# Altium schematic symbol library Transistor.SchLib: 26 symbols
Pins are listed as number, name and electrical type; pins without a type are passive.

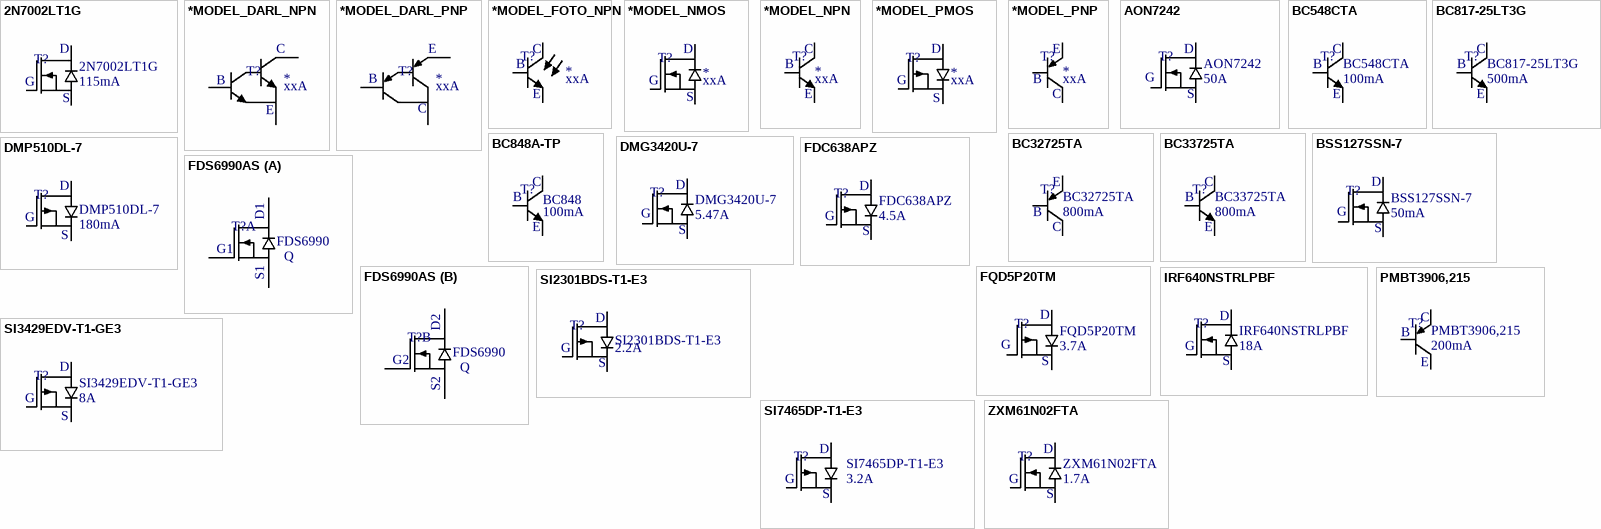
[diagram p0: symbols 2N7002LT1G to ZXM61N02FTA]

## 2N7002LT1G
designator T?  Current: 115mA  (hidden comment: 2N7002LT1G)
MOSFET N-CH 60V 115MA SOT-23; Manufacturer: ON Semiconductor; Mount Type: SMD; Category: NMOSFET; Supplier 1: Farnell; Supplier 2: Newark; Supplier 3: Digi-Key; Supplier 4: Mouser; Supplier Part Number 1: 1764537; Supplier Part Number 2: 62M2216; Supplier Part Number 3: 2N7002LT1GOSCT-ND; Supplier Part Number 4: 863-2N7002LT1G; Value: 2N7002LT1G
footprint SOT-23
pins: 1 G, 2 S, 3 D

## *MODEL_DARL_NPN
designator T?, comment Current: xxA  (hidden comment: Part Number)
Description; Manufacturer: *; Mount Type: *; Category: BJT NPN; Value: *
pins: B, C, E

## *MODEL_DARL_PNP
designator T?, comment Current: xxA  (hidden comment: Part Number)
Description; Manufacturer: *; Mount Type: *; Category: BJT NPN; Value: *
pins: B, C, E

## *MODEL_FOTO_NPN
designator T?, comment Current: xxA  (hidden comment: Part Number)
Description; Manufacturer: *; Mount Type: *; Category: BJT NPN; Value: *
pins: B, C, E

## *MODEL_NMOS
designator T?, comment Current: xxA  (hidden comment: Part Number)
Description; Manufacturer: *; Mount Type: *; Category: NMOSFET; Value: *
pins: 1 G, 2 S, 3 D

## *MODEL_NPN
designator T?, comment Current: xxA  (hidden comment: Part Number)
Description; Manufacturer: *; Mount Type: *; Category: BJT NPN; Value: *
pins: 1 B, 2 E, 3 C

## *MODEL_PMOS
designator T?, comment Current: xxA  (hidden comment: Part Number)
Description; Manufacturer: *; Mount Type: *; Category: PMOSFET; Value: *
pins: 1 G, 2 S, 3 D

## *MODEL_PNP
designator T?, comment Current: xxA  (hidden comment: Part Number)
Description; Manufacturer: *; Mount Type: *; Category: BJT PNP; Value: *
pins: 1 C, 2 B, 3 E

## AON7242
designator T?  Current: 50A  (hidden comment: AON7242)
MOS N CH 40V 50A DFN3.3X3.3EP; Manufacturer: Alpha & Omega Semiconductor Inc; Mount Type: SMD; Category: NMOSFET; Supplier 1: Digi-Key; Supplier Part Number 1: 785-1378-1-ND; Value: AON7242
footprint DFN 3.3x3.3; pin to pad 1>1+2+3
pins: 1 S, 2 S, 3 S, 4 G, 5 D, 6 D, 7 D, 8 D

## BC548CTA
designator T?  Current: 100mA  (hidden comment: BC548CTA)
TRANS NPN 30V 0.1A TO-92; Manufacturer: Fairchild Semiconductor; Mount Type: PTH; Category: BJT NPN; Supplier 1: Mouser; Supplier Part Number 1: 512-BC548BU; Supplier 2: Farnell; Supplier Part Number 2: 2453795; Supplier 3: Digi-Key; Supplier Part Number 3: BC548CTAFSCT-ND; Supplier 4: Newark; Supplier Part Number 4: 31Y0484; Value: BC548CTA
footprint TO-92
pins: 1 C, 2 B, 3 E

## BC817-25LT3G
designator T?  Current: 500mA  (hidden comment: BC817-25LT3G)
TRANSISTOR NPN 45V 500MA SOT-23; Manufacturer: ON Semiconductor; Mount Type: SMD; Category: BJT NPN; Supplier 1: Mouser; Supplier 2: Allied; Supplier 3: Digi-Key; Supplier Part Number 1: 863-BC817-25LT3G; Supplier Part Number 2: R1106974; Supplier Part Number 3: BC817-25LT1GOSCT-ND; Value: BC817-25LT3G
footprint SOT-23; pin to pad B>1 C>3 E>2
pins: B, C, E

## BC848A-TP
designator T?  value BC848  Current: 100mA  (hidden comment: BC848A-TP)
TRANSISTOR NPN 100MA 30V SOT-23; Manufacturer: Micro Commercial Co; Mount Type: SMD; Category: BJT NPN; Supplier 1: Farnell; Supplier 2: Newark; Supplier 3: Mouser; Supplier 4: Digi-Key; Supplier Part Number 1: 1924326; Supplier Part Number 2: 51T4870; Supplier Part Number 3: 833-BC848A-TP; Supplier Part Number 4: BC848A-TPMSCT-ND
footprint SOT-23
pins: 1 B, 2 E, 3 C

## BC32725TA
designator T?  Current: 800mA  (hidden comment: BC32725TA)
TRANS PNP 45V 0.8A TO-92; Manufacturer: Fairchild/ON Semiconductor; Mount Type: PTH; Category: BJT PNP; Supplier 1: Digi-Key; Supplier Part Number 1: BC32725TACT-ND; Supplier 2: Farnell; Supplier Part Number 2: 1853514; Supplier 3: Newark; Supplier Part Number 3: 82C0340; Value: BC32725TA
footprint TO-92
pins: 1 C, 2 B, 3 E

## BC33725TA
designator T?  Current: 800mA  (hidden comment: BC33725TA)
TRANS NPN 45V 0.8A TO-92; Manufacturer: Fairchild/ON Semiconductor; Mount Type: PTH; Category: BJT NPN; Supplier 1: Newark; Supplier Part Number 1: 82C0365; Supplier 2: Digi-Key; Supplier Part Number 2: BC33725TACT-ND; Supplier 3: Farnell; Supplier Part Number 3: 1695754; Value: BC33725TA
footprint TO-92
pins: 1 C, 2 B, 3 E

## BSS127SSN-7
designator T?  Current: 50mA  (hidden comment: BSS127SSN-7)
MOSFET N-CH 600V 50MA SC59; Manufacturer: Diodes Incorporated; Mount Type: SMD; Category: NMOSFET; Supplier 1: Digi-Key; Supplier Part Number 1: BSS127SSN-7DICT-ND; Value: BSS127SSN-7
footprint SOT-23
pins: 1 G, 2 S, 3 D

## DMG3420U-7
designator T?  Current: 5.47A  (hidden comment: DMG3420U-7)
MOSFET N-CH 20V 5.47A SOT23; Manufacturer: Diodes Incorporated; Mount Type: SMD; Category: NMOSFET; Supplier 1: Mouser; Supplier Part Number 1: 621-DMG3420U-7; Supplier 2: Digi-Key; Supplier Part Number 2: DMG3420U-7DICT-ND; Value: DMG3420U-7
footprint SOT-23
pins: 1 G, 2 S, 3 D

## DMP510DL-7
designator T?  Current: 180mA  (hidden comment: DMP510DL-7)
MOSFET P-CH 50V 0.18A SOT23; Manufacturer: Diodes Incorporated; Mount Type: SMD; Category: PMOSFET; Supplier 1: Digi-Key; Supplier Part Number 1: DMP510DL-7DICT-ND; Value: DMP510DL-7
footprint SOT-23
pins: 1 G, 2 S, 3 D

## FDC638APZ
designator T?  Current: 4.5A  (hidden comment: FDC638APZ)
MOSFET P-CH 20V 4.5A SSOT-6; Manufacturer: Fairchild Semiconductor; Mount Type: SMD; Category: PMOSFET; Supplier 1: Newark; Supplier 2: Mouser; Supplier 3: Farnell; Supplier 4: Digi-Key; Supplier Part Number 1: 67P3457; Supplier Part Number 2: 512-FDC638APZ; Supplier Part Number 3: 1495226; Supplier Part Number 4: FDC638APZCT-ND; Value: FDC638APZ
footprint SuperSOT-6; pin to pad 1>1+2+5+6
pins: 1 D, 2 D, 3 G, 4 S, 5 D, 6 D

## FDS6990AS
designator T?  value FDS6990  Current: Q  (hidden comment: FDS6990AS)
MOSFET 2N-CH 30V 7.5A 8SOIC; Manufacturer: Fairchild/ON Semiconductor; Mount Type: SMD; Category: NMOSFET; Supplier 1: Arrow; Supplier Part Number 1: qTLpSCXdZHN7V2ngIzusAGvvR7TIo7F-Wjk7_Cu4dcQ; Supplier 2: Newark; Supplier Part Number 2: 15R3435; Supplier 3: Farnell; Supplier Part Number 3: 1504994; Supplier 4: Digi-Key; Supplier Part Number 4: FDS6990ASCT-ND
footprint SOIC-8 TPAD
part A pins: 3, 4, 5, 6
part B pins: 1, 2, 7, 8
part A text: D1; G1; S1
part B text: D2; G2; S2

## FQD5P20TM
designator T?  Current: 3.7A  (hidden comment: FQD5P20TM)
MOSFET P-CH 200V 3.7A DPAK; Manufacturer: Fairchild Semiconductor; Mount Type: SMD; Category: PMOSFET; Supplier 1: Digi-Key; Supplier Part Number 1: FQD5P20TMCT-ND; Value: FQD5P20TM
footprint DPAK  369C-01
pins: 1 G, 2 D, 3 S

## IRF640NSTRLPBF
designator T?  Current: 18A  (hidden comment: IRF640NSTRLPBF)
MOSFET N-CH 200V 18A D2PAK; Manufacturer: International Rectifier; Mount Type: SMD; Category: NMOSFET; Supplier 1: Digi-Key; Supplier Part Number 1: IRF640NSTRLPBFCT-ND; Supplier 2: Farnell; Supplier Part Number 2: 8648387; Supplier 3: Newark; Supplier Part Number 3: 63J7352; Supplier 4: Mouser; Supplier Part Number 4: 942-IRF640NSTRLPBF; Value: IRF640NSTRLPBF
footprint D2PAK; pin to pad 2>3 3>2
pins: 1 G, 2 S, 3 D

## PMBT3906,215
designator T?  Current: 200mA  (hidden comment: PMBT3906,215)
TRANS PNP SW 200MA 40V SOT23; Manufacturer: NXP Semiconductors; Mount Type: SMD; Category: BJT PNP; Supplier 1: Digi-Key; Supplier Part Number 1: 568-1742-1-ND; Value: PMBT3906,215
footprint SOT-23; pin to pad B>1 C>3 E>2
pins: B, C, E

## SI2301BDS-T1-E3
designator T?  Current: 2.2A  (hidden comment: SI2301BDS-T1-E3)
MOSFET P-CH 20V 2.2A SOT23-3; Manufacturer: Vishay Siliconix; Mount Type: SMD; Category: PMOSFET; Supplier 1: Mouser; Supplier 2: Newark; Supplier 3: Digi-Key; Supplier 4: Farnell; Supplier Part Number 1: 781-SI2301BDS-E3; Supplier Part Number 2: 06J7561; Supplier Part Number 3: SI2301BDS-T1-E3CT-ND; Supplier Part Number 4: 1470099; Value: SI2301BDS-T1-E3
footprint SOT-23
pins: 1 G, 2 S, 3 D

## SI3429EDV-T1-GE3
designator T?  Current: 8A  (hidden comment: SI3429EDV-T1-GE3)
MOSFET P-CHAN 20V TSOP6S; Manufacturer: Vishay Siliconix; Mount Type: SMD; Category: PMOSFET; Supplier 1: Digi-Key; Supplier 2: Arrow; Supplier Part Number 1: SI3429EDV-T1-GE3CT-ND; Supplier Part Number 2: LRDcf5UPiDKjPO9vpQRjMFkKAmI7szXw2TKOw99IJjYZVywxIBNyoAQstvnyfZZ0; Value: SI3429EDV-T1-GE3
footprint TSOP-6
pins: 1 D, 2 D, 3 G, 4 S, 5 D, 6 D

## SI7465DP-T1-E3
designator T?  Current: 3.2A  (hidden comment: SI7465DP-T1-E3)
MOSFET P-CH 60V 3.2A PPAK SO-8; Manufacturer: Vishay Siliconix; Mount Type: SMD; Category: PMOSFET; Supplier 1: Digi-Key; Supplier 2: Farnell; Supplier 3: Mouser; Supplier 4: Newark; Supplier Part Number 1: SI7465DP-T1-E3CT-ND; Supplier Part Number 2: 1684077; Supplier Part Number 3: 781-SI7465DP-T1-E3; Supplier Part Number 4: 51K6994; Value: SI7465DP-T1-E3
footprint PPAK SO-8
pins: 1 S, 2 S, 3 S, 4 G, 5 D, 6 D, 7 D, 8 D

## ZXM61N02FTA
designator T?  Current: 1.7A  (hidden comment: ZXM61N02FTA)
MOSFET N-CH 20V 1.7A SOT23-3; Manufacturer: Diodes Incorporated; Mount Type: SMD; Category: NMOSFET; Supplier 1: Mouser; Supplier 2: Newark; Supplier 3: Digi-Key; Supplier 4: Farnell; Supplier Part Number 1: 522-ZXM61N02FTA; Supplier Part Number 2: 98K4137; Supplier Part Number 3: ZXM61N02FCT-ND; Supplier Part Number 4: 9525270; Value: ZXM61N02FTA
footprint SOT-23
pins: 1 G, 2 S, 3 D